# Altium footprint library Tensility_Barrel_Jacks.PcbLib: 1 footprints
Each footprint in its own frame and in the unit in brackets; x right, y up, seen from the top. Pads: shape width x height; smd on the part's side, far side on the other; paste and mask are expansions set on the pad; w line width, h text height; cw(c..) or ccw(c..) is an arc to the next point about the centre after c.
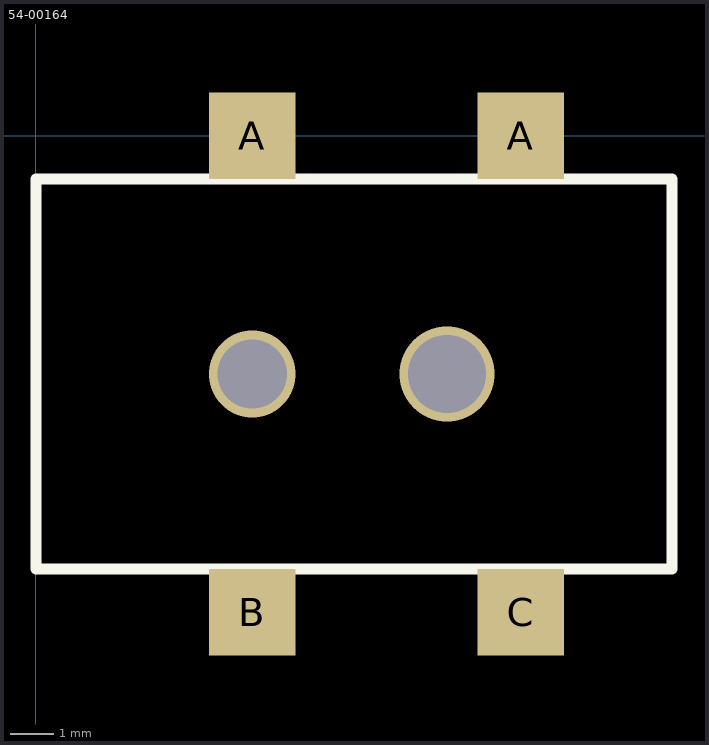
[diagram p0: the footprint, top view; thin cyan lines are the x and y axes]

## 54-00164 [mm] "Power Barrel Connector Jack 2.10mm ID (0.083\"), 5.50mm OD (0.217\") Surface Mount, Right Angle"
pads (4):
  rect 2x2 smd: A(5,0) A(11.2,0) B(5,-11) C(11.2,-11)
via 5,-5.5 diameter 2 hole 1.6
via 9.5,-5.5 diameter 2.2 hole 1.8
Top Overlay:
  lines w0.254: 0,-10 14.7,-10 14.7,-1 0,-1 0,-10
3D body "54-00164.STEP": height 10.89, standoff -1.31, extent 0.005,-11.685 14.705,0.715